# Altium integrated library Analog Devices MEMS Inertial Sensors.IntLib: 109 symbols (part 4 of 6)
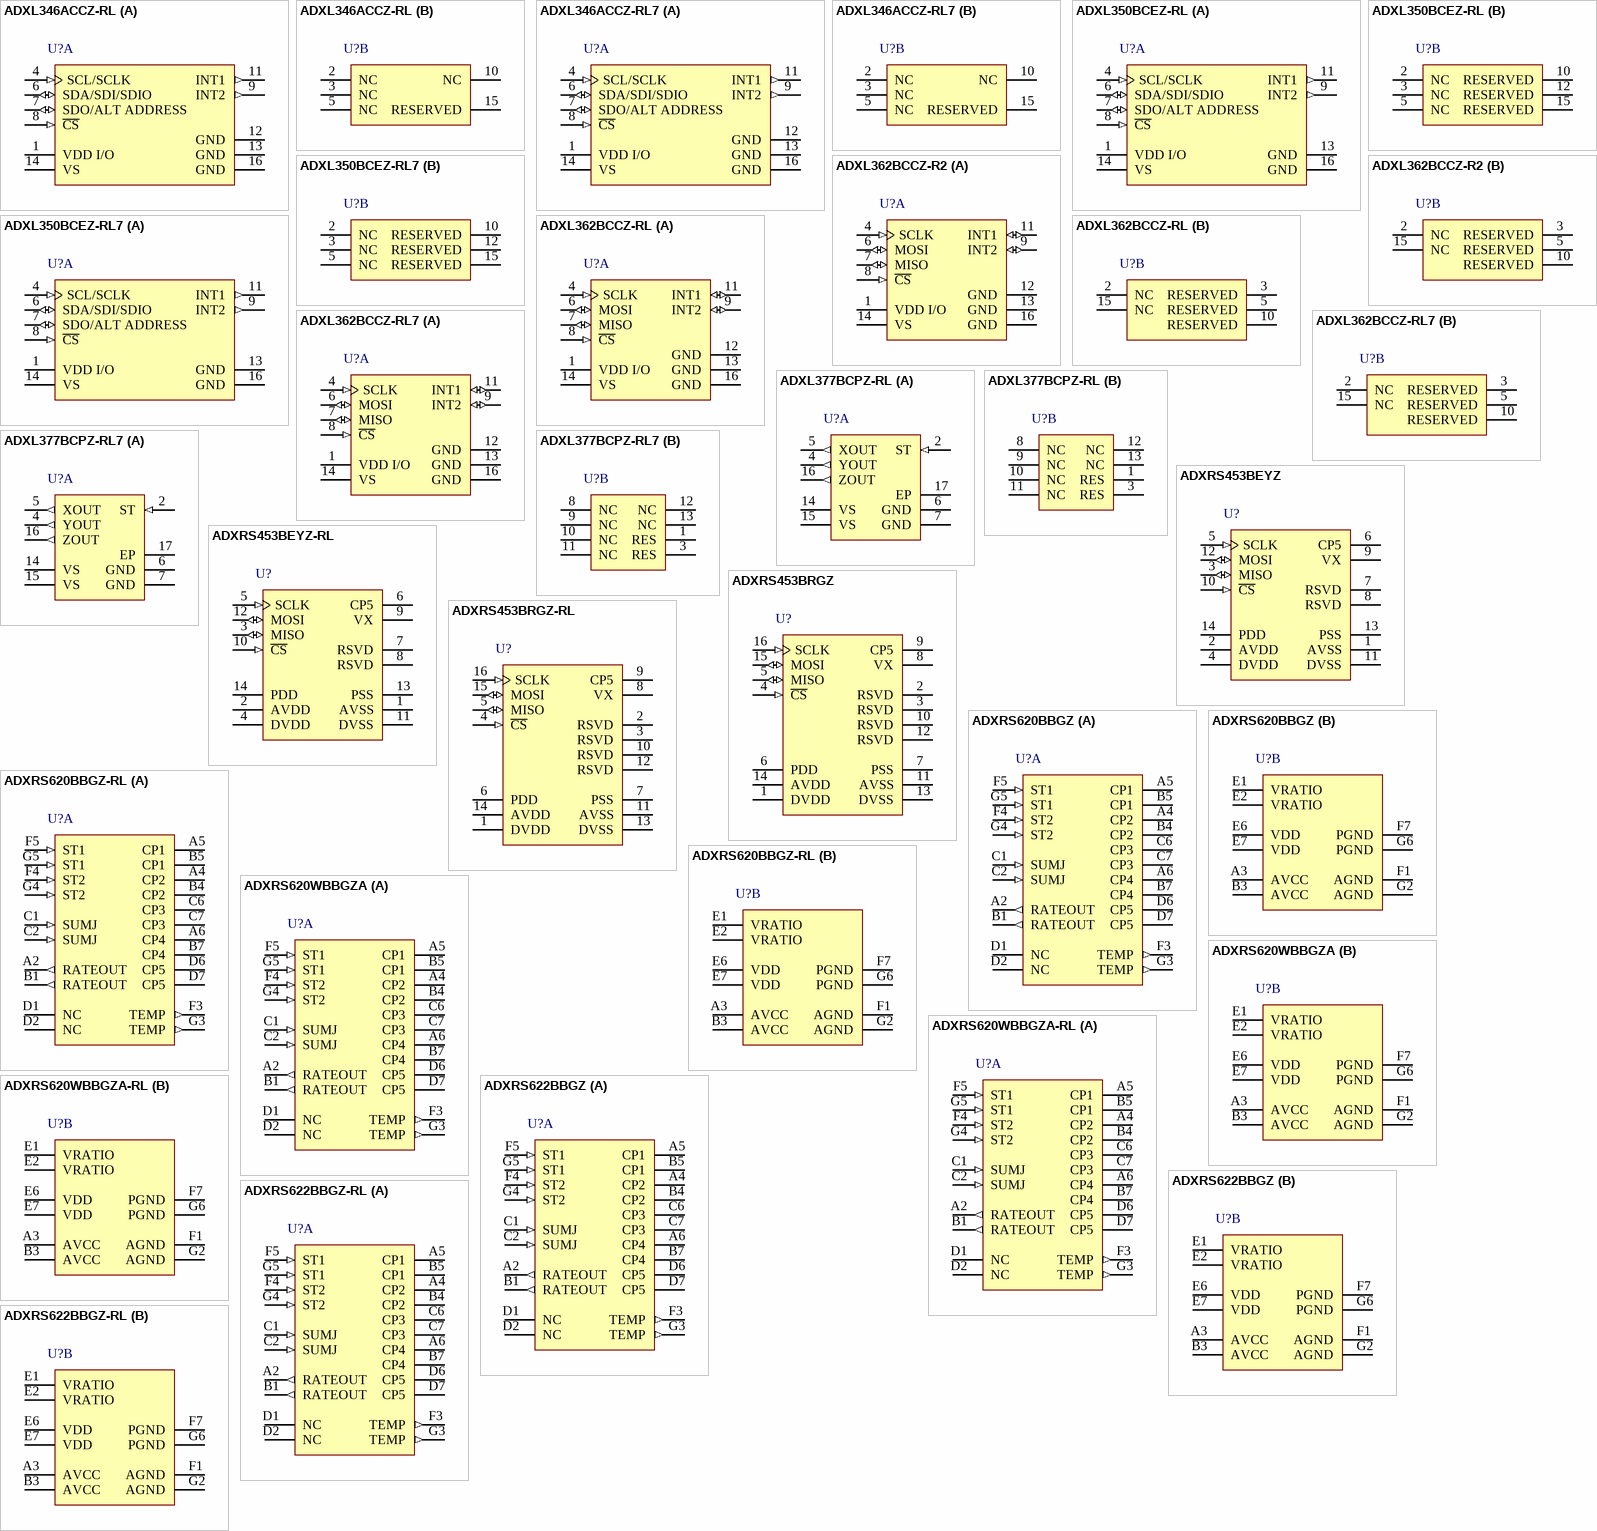
[diagram p8: symbols ADXL346ACCZ-RL to ADXRS622BBGZ-RL]

## ADXL346ACCZ-RL
designator U?
3-Axis, +/-2 g / +/-4 g / +/-8 g / +/-16 g Ultralow Power Digital Accelerometer with Digital Output, 1.6 KHz BW, Industrial, 16-pin LGA, Reel; Manufacturer: Analog Devices; PartNumber: ADXL346ACCZ-RL; # of Axes: 3; -3dB Bandwidth: 1.6 KHz; Sensitivity: 256/128/64/32 LSB/g; Supply Current: 140 uA; Voltage Supply (V): 1.7 to 2.75; DatasheetVersion: Rev. B; PackageVersion: 07-30-2012-B, 07/2012; PackageReference: CC-16-3; PackageDescription: 16-Pin Land Grid Array, 3 x 3 mm Body, 0.5 mm Pitch; Supplier 1: Digi-Key; Supplier Part Number 1: ADXL346ACCZ-RL-ND; Supplier 2: Newark; Supplier Part Number 2: 74R5959; Supplier 3: Mouser; Supplier Part Number 3: 584-ADXL346ACCZ-R; Output Type: Digital; Packing: Reel; Mounting Technology: Surface Mount; ComponentLink1Description: Manufacturer URL; ComponentLink1URL: http://www.analog.com/en/index.html; ComponentLink2Description: Datasheet; ComponentLink2URL: http://www.analog.com/static/imported-files/data_sheets/ADXL346.pdf; ComponentLink3Description: Package Specification; ComponentLink3URL: http:/www.analog.com/static/imported-files/packages/PKG_PDF/LGA(CC)/CC_16_3.pdf; ComponentLink4Description: Product URL; ComponentLink4URL: http://www.analog.com/en/mems-sensors/mems-inertial-sensors/adxl346/products/product.html
footprint ADI-CC-16-3_N (QFN, 16-Leads, Body 3x3mm, Pitch 0.5mm, IPC Medium Density)
footprint ADI-CC-16-3_L (QFN, 16-Leads, Body 3x3mm, Pitch 0.5mm, IPC High Density)
footprint ADI-CC-16-3_M (QFN, 16-Leads, Body 3x3mm, Pitch 0.5mm, IPC Low Density)
part A pins: 1 VDD I/O (power) "Digital Interface Supply Voltage.", 4 SCL/SCLK (in) "Serial Communications Clock.", 6 SDA/SDI/SDIO (io) "Serial Data (I2C)/Serial Data Input (SPI 4-Wire)/Serial Data Input and Output (SPI 3-Wire).", 7 SDO/ALT ADDRESS (io) "Serial Data Output (SPI 4-Wire)/Alternate I2C Address Select (I2C).", 8 ~{CS} (in) "Chip Select.", 9 INT2 (out) "Interrupt 2 Output.", 11 INT1 (out) "Interrupt 1 Output.", 12 GND (power) "Must be connected to ground.", 13 GND (power) "Must be connected to ground.", 14 VS (power) "Supply Voltage.", 16 GND (power) "Must be connected to ground."
part B pins: 2 NC "Not Internally Connected.", 3 NC "Not Internally Connected.", 5 NC "Not Internally Connected.", 10 NC "Not Internally Connected.", 15 RESERVED "Reserved. This pin must be connected to VS."

## ADXL346ACCZ-RL7
designator U?
3-Axis, +/-2 g / +/-4 g / +/-8 g / +/-16 g Ultralow Power Digital Accelerometer with Digital Output, 1.6 KHz BW, Industrial, 16-pin LGA, Reel; Manufacturer: Analog Devices; PartNumber: ADXL346ACCZ-RL7; # of Axes: 3; -3dB Bandwidth: 1.6 KHz; Sensitivity: 256/128/64/32 LSB/g; Supply Current: 140 uA; Voltage Supply (V): 1.7 to 2.75; DatasheetVersion: Rev. B; PackageVersion: 07-30-2012-B, 07/2012; PackageReference: CC-16-3; PackageDescription: 16-Pin Land Grid Array, 3 x 3 mm Body, 0.5 mm Pitch; Supplier 1: Digi-Key; Supplier Part Number 1: ADXL346ACCZ-RL7TR-ND; Supplier 2: Digi-Key; Supplier Part Number 2: ADXL346ACCZ-RL7CT-ND; Supplier 3: Digi-Key; Supplier Part Number 3: ADXL346ACCZ-RL7DKR-ND; Supplier 4: Farnell; Supplier Part Number 4: 2125736; Supplier 5: Newark; Supplier Part Number 5: 78T6295; Supplier 6: Newark; Supplier Part Number 6: 74R5960; Supplier 7: Mouser; Supplier Part Number 7: 584-ADXL346ACCZ-R7; Output Type: Digital; Packing: Reel; Mounting Technology: Surface Mount; ComponentLink1Description: Manufacturer URL; ComponentLink1URL: http://www.analog.com/en/index.html; ComponentLink2Description: Datasheet; ComponentLink2URL: http://www.analog.com/static/imported-files/data_sheets/ADXL346.pdf; ComponentLink3Description: Package Specification; ComponentLink3URL: http:/www.analog.com/static/imported-files/packages/PKG_PDF/LGA(CC)/CC_16_3.pdf; ComponentLink4Description: Product URL; ComponentLink4URL: http://www.analog.com/en/mems-sensors/mems-inertial-sensors/adxl346/products/product.html
footprint ADI-CC-16-3_N (QFN, 16-Leads, Body 3x3mm, Pitch 0.5mm, IPC Medium Density)
footprint ADI-CC-16-3_L (QFN, 16-Leads, Body 3x3mm, Pitch 0.5mm, IPC High Density)
footprint ADI-CC-16-3_M (QFN, 16-Leads, Body 3x3mm, Pitch 0.5mm, IPC Low Density)
part A pins: 1 VDD I/O (power) "Digital Interface Supply Voltage.", 4 SCL/SCLK (in) "Serial Communications Clock.", 6 SDA/SDI/SDIO (io) "Serial Data (I2C)/Serial Data Input (SPI 4-Wire)/Serial Data Input and Output (SPI 3-Wire).", 7 SDO/ALT ADDRESS (io) "Serial Data Output (SPI 4-Wire)/Alternate I2C Address Select (I2C).", 8 ~{CS} (in) "Chip Select.", 9 INT2 (out) "Interrupt 2 Output.", 11 INT1 (out) "Interrupt 1 Output.", 12 GND (power) "Must be connected to ground.", 13 GND (power) "Must be connected to ground.", 14 VS (power) "Supply Voltage.", 16 GND (power) "Must be connected to ground."
part B pins: 2 NC "Not Internally Connected.", 3 NC "Not Internally Connected.", 5 NC "Not Internally Connected.", 10 NC "Not Internally Connected.", 15 RESERVED "Reserved. This pin must be connected to VS."

## ADXL350BCEZ-RL
designator U?
3-Axis, +/-1 g / +/-2 g / +/-4 g / +/-8 g Digital Accelerometer with Digital Output, 1.6 KHz BW, Industrial, 16-pin QFN, Reel; Manufacturer: Analog Devices; PartNumber: ADXL350BCEZ-RL; # of Axes: 3; -3dB Bandwidth: 1.6 KHz; Sensitivity: 512/256/128/64 LSB/g; Supply Current: 166 uA; Voltage Supply (V): 2.0 to 3.6; DatasheetVersion: Rev. 0; PackageVersion: 07-13-2012-B, 07/2012; PackageReference: CE-16-3; PackageDescription: 16-Pin Chip Array, Small Outline, No Lead Cavity, 4 x 3 mm Body, 0.5 mm Pitch; Supplier 1: Digi-Key; Supplier Part Number 1: ADXL350BCEZ-RL-ND; Supplier 2: Mouser; Supplier Part Number 2: 584-ADXL350BCEZ-R; Output Type: Digital; Packing: Reel; Mounting Technology: Surface Mount; ComponentLink1Description: Manufacturer URL; ComponentLink1URL: http://www.analog.com/en/index.html; ComponentLink2Description: Datasheet; ComponentLink2URL: http://www.analog.com/static/imported-files/data_sheets/ADXL350.pdf; ComponentLink3Description: Package Specification; ComponentLink3URL: http://www.analog.com/static/imported-files/data_sheets/ADXL350.pdf; ComponentLink4Description: Product URL; ComponentLink4URL: http://www.analog.com/en/mems-sensors/mems-inertial-sensors/adxl350/products/product.html
footprint ADI-CE-16-3_V (QFN, 16-Leads, Body 4x3mm, Pitch 0.5mm)
part A pins: 1 VDD I/O (power) "Digital Interface Supply Voltage.", 4 SCL/SCLK (in) "Serial Communications Clock.", 6 SDA/SDI/SDIO (io) "Serial Data (I2C)/Serial Data Input (SPI 4-Wire)/Serial Data Input and Output (SPI 3-Wire).", 7 SDO/ALT ADDRESS (io) "Serial Data Output/Alternate I2C Address Select.", 8 ~{CS} (in) "Chip Select.", 9 INT2 (out) "Interrupt 2 Output.", 11 INT1 (out) "Interrupt 1 Output.", 13 GND (power) "This pin must be connected to ground.", 14 VS (power) "Supply Voltage.", 16 GND (power) "This pin must be connected to ground."
part B pins: 2 NC "Not Internally Connected.", 3 NC "Not Internally Connected.", 5 NC "Not Internally Connected.", 10 RESERVED "Reserved. This pin must be connected to ground or left open.", 12 RESERVED "Reserved. This pin must be connected to ground.", 15 RESERVED "Reserved. This pin must be connected to VS or left open."

## ADXL350BCEZ-RL7
designator U?
3-Axis, +/-1 g / +/-2 g / +/-4 g / +/-8 g Digital Accelerometer with Digital Output, 1.6 KHz BW, Industrial, 16-pin QFN, Reel; Manufacturer: Analog Devices; PartNumber: ADXL350BCEZ-RL7; # of Axes: 3; -3dB Bandwidth: 1.6 KHz; Sensitivity: 512/256/128/64 LSB/g; Supply Current: 166 uA; Voltage Supply (V): 2.0 to 3.6; DatasheetVersion: Rev. 0; PackageVersion: 07-13-2012-B, 07/2012; PackageReference: CE-16-3; PackageDescription: 16-Pin Chip Array, Small Outline, No Lead Cavity, 4 x 3 mm Body, 0.5 mm Pitch; Supplier 1: Digi-Key; Supplier Part Number 1: ADXL350BCEZ-RL7TR-ND; Supplier 2: Digi-Key; Supplier Part Number 2: ADXL350BCEZ-RL7CT-ND; Supplier 3: Digi-Key; Supplier Part Number 3: ADXL350BCEZ-RL7DKR-ND; Supplier 4: Farnell; Supplier Part Number 4: 2250675; Supplier 5: Newark; Supplier Part Number 5: 47W3885; Supplier 6: Newark; Supplier Part Number 6: 45W7057; Supplier 7: Mouser; Supplier Part Number 7: 584-ADXL350BCEZ-R7; Output Type: Digital; Packing: Reel; Mounting Technology: Surface Mount; ComponentLink1Description: Manufacturer URL; ComponentLink1URL: http://www.analog.com/en/index.html; ComponentLink2Description: Datasheet; ComponentLink2URL: http://www.analog.com/static/imported-files/data_sheets/ADXL350.pdf; ComponentLink3Description: Package Specification; ComponentLink3URL: http://www.analog.com/static/imported-files/data_sheets/ADXL350.pdf; ComponentLink4Description: Product URL; ComponentLink4URL: http://www.analog.com/en/mems-sensors/mems-inertial-sensors/adxl350/products/product.html
footprint ADI-CE-16-3_V (QFN, 16-Leads, Body 4x3mm, Pitch 0.5mm)
part A pins: 1 VDD I/O (power) "Digital Interface Supply Voltage.", 4 SCL/SCLK (in) "Serial Communications Clock.", 6 SDA/SDI/SDIO (io) "Serial Data (I2C)/Serial Data Input (SPI 4-Wire)/Serial Data Input and Output (SPI 3-Wire).", 7 SDO/ALT ADDRESS (io) "Serial Data Output/Alternate I2C Address Select.", 8 ~{CS} (in) "Chip Select.", 9 INT2 (out) "Interrupt 2 Output.", 11 INT1 (out) "Interrupt 1 Output.", 13 GND (power) "This pin must be connected to ground.", 14 VS (power) "Supply Voltage.", 16 GND (power) "This pin must be connected to ground."
part B pins: 2 NC "Not Internally Connected.", 3 NC "Not Internally Connected.", 5 NC "Not Internally Connected.", 10 RESERVED "Reserved. This pin must be connected to ground or left open.", 12 RESERVED "Reserved. This pin must be connected to ground.", 15 RESERVED "Reserved. This pin must be connected to VS or left open."

## ADXL362BCCZ-R2
designator U?
Micropower, 3-Axis, +/-2 g / +/-4 g / +/-8 g Digital Output MEMS Accelerometer with 200 Hz BW, Industrial, 16-pin LGA, Reel; Manufacturer: Analog Devices; PartNumber: ADXL362BCCZ-R2; # of Axes: 3; -3dB Bandwidth: 200 Hz; Sensitivity: 1/2/4 mg/LSB; Supply Current: 1.8 uA; Voltage Supply (V): 1.6 to 3.5; DatasheetVersion: Rev. B; PackageVersion: 10-23-2012-A, 10/2012; PackageReference: CC-16-4; PackageDescription: 16-Pin Land Grid Array, 3.25 x 3 mm Body, 0.5 mm Pitch; Supplier 1: Digi-Key; Supplier Part Number 1: ADXL362BCCZ-R2TR-ND; Supplier 2: Digi-Key; Supplier Part Number 2: ADXL362BCCZ-R2CT-ND; Supplier 3: Digi-Key; Supplier Part Number 3: ADXL362BCCZ-R2DKR-ND; Supplier 4: Newark; Supplier Part Number 4: 45W7058; Supplier 5: Mouser; Supplier Part Number 5: 584-ADXL362BCCZ-R2; Output Type: Digital; Packing: Reel; Mounting Technology: Surface Mount; ComponentLink1Description: Manufacturer URL; ComponentLink1URL: http://www.analog.com/en/index.html; ComponentLink2Description: Datasheet; ComponentLink2URL: http://www.analog.com/static/imported-files/data_sheets/ADXL362.pdf; ComponentLink3Description: Package Specification; ComponentLink3URL: http:/www.analog.com/static/imported-files/packages/PKG_PDF/LGA(CC)/CC_16_4.pdf; ComponentLink4Description: Product URL; ComponentLink4URL: http://www.analog.com/en/mems-sensors/mems-inertial-sensors/adxl362/products/product.html
footprint ADI-CC-16-4_N (QFN, 16-Leads, Body 3.25x3mm, Pitch 0.5mm, IPC Medium Density)
footprint ADI-CC-16-4_L (QFN, 16-Leads, Body 3.25x3mm, Pitch 0.5mm, IPC High Density)
footprint ADI-CC-16-4_M (QFN, 16-Leads, Body 3.25x3mm, Pitch 0.5mm, IPC Low Density)
part A pins: 1 VDD I/O (power) "Supply Voltage for Digital I/O.", 4 SCLK (in) "SPI Communications Clock.", 6 MOSI (io) "Master Output, Slave Input. SPI serial data input.", 7 MISO (io) "Master Input, Slave Output. SPI serial data output.", 8 ~{CS} (in) "SPI Chip Select, Active Low. Must be low during SPI communications.", 9 INT2 (io) "Interrupt 2 Output. INT2 also serves as an input for synchronized sampling.", 11 INT1 (io) "Interrupt 1 Output. INT1 also serves as an input for external clocking.", 12 GND (power) "Ground. This pin must be grounded.", 13 GND (power) "Ground. This pin must be grounded.", 14 VS (power) "Supply Voltage.", 16 GND (power) "Ground. This pin must be grounded."
part B pins: 2 NC "No Connect. Not internally connected.", 3 RESERVED "Reserved. Can be left unconnected or connected to GND.", 5 RESERVED "Reserved. Can be left unconnected or connected to GND.", 10 RESERVED "Reserved. Can be left unconnected or connected to GND.", 15 NC "No Connect. Not internally connected."

## ADXL362BCCZ-RL
designator U?
Micropower, 3-Axis, +/-2 g / +/-4 g / +/-8 g Digital Output MEMS Accelerometer with 200 Hz BW, Industrial, 16-pin LGA, Reel; Manufacturer: Analog Devices; PartNumber: ADXL362BCCZ-RL; # of Axes: 3; -3dB Bandwidth: 200 Hz; Sensitivity: 1/2/4 mg/LSB; Supply Current: 1.8 uA; Voltage Supply (V): 1.6 to 3.5; DatasheetVersion: Rev. B; PackageVersion: 10-23-2012-A, 10/2012; PackageReference: CC-16-4; PackageDescription: 16-Pin Land Grid Array, 3.25 x 3 mm Body, 0.5 mm Pitch; Supplier 1: Digi-Key; Supplier Part Number 1: ADXL362BCCZ-RL-ND; Supplier 2: Newark; Supplier Part Number 2: 43W5525; Supplier 3: Mouser; Supplier Part Number 3: 584-ADXL362BCCZ-R; Output Type: Digital; Packing: Reel; Mounting Technology: Surface Mount; ComponentLink1Description: Manufacturer URL; ComponentLink1URL: http://www.analog.com/en/index.html; ComponentLink2Description: Datasheet; ComponentLink2URL: http://www.analog.com/static/imported-files/data_sheets/ADXL362.pdf; ComponentLink3Description: Package Specification; ComponentLink3URL: http:/www.analog.com/static/imported-files/packages/PKG_PDF/LGA(CC)/CC_16_4.pdf; ComponentLink4Description: Product URL; ComponentLink4URL: http://www.analog.com/en/mems-sensors/mems-inertial-sensors/adxl362/products/product.html
footprint ADI-CC-16-4_N (QFN, 16-Leads, Body 3.25x3mm, Pitch 0.5mm, IPC Medium Density)
footprint ADI-CC-16-4_L (QFN, 16-Leads, Body 3.25x3mm, Pitch 0.5mm, IPC High Density)
footprint ADI-CC-16-4_M (QFN, 16-Leads, Body 3.25x3mm, Pitch 0.5mm, IPC Low Density)
part A pins: 1 VDD I/O (power) "Supply Voltage for Digital I/O.", 4 SCLK (in) "SPI Communications Clock.", 6 MOSI (io) "Master Output, Slave Input. SPI serial data input.", 7 MISO (io) "Master Input, Slave Output. SPI serial data output.", 8 ~{CS} (in) "SPI Chip Select, Active Low. Must be low during SPI communications.", 9 INT2 (io) "Interrupt 2 Output. INT2 also serves as an input for synchronized sampling.", 11 INT1 (io) "Interrupt 1 Output. INT1 also serves as an input for external clocking.", 12 GND (power) "Ground. This pin must be grounded.", 13 GND (power) "Ground. This pin must be grounded.", 14 VS (power) "Supply Voltage.", 16 GND (power) "Ground. This pin must be grounded."
part B pins: 2 NC "No Connect. Not internally connected.", 3 RESERVED "Reserved. Can be left unconnected or connected to GND.", 5 RESERVED "Reserved. Can be left unconnected or connected to GND.", 10 RESERVED "Reserved. Can be left unconnected or connected to GND.", 15 NC "No Connect. Not internally connected."

## ADXL362BCCZ-RL7
designator U?
Micropower, 3-Axis, +/-2 g / +/-4 g / +/-8 g Digital Output MEMS Accelerometer with 200 Hz BW, Industrial, 16-pin LGA, Reel; Manufacturer: Analog Devices; PartNumber: ADXL362BCCZ-RL7; # of Axes: 3; -3dB Bandwidth: 200 Hz; Sensitivity: 1/2/4 mg/LSB; Supply Current: 1.8 uA; Voltage Supply (V): 1.6 to 3.5; DatasheetVersion: Rev. B; PackageVersion: 10-23-2012-A, 10/2012; PackageReference: CC-16-4; PackageDescription: 16-Pin Land Grid Array, 3.25 x 3 mm Body, 0.5 mm Pitch; Supplier 1: Digi-Key; Supplier Part Number 1: ADXL362BCCZ-RL7TR-ND; Supplier 2: Digi-Key; Supplier Part Number 2: ADXL362BCCZ-RL7CT-ND; Supplier 3: Digi-Key; Supplier Part Number 3: ADXL362BCCZ-RL7DKR-ND; Supplier 4: Farnell; Supplier Part Number 4: 2377129; Supplier 5: Newark; Supplier Part Number 5: 47W0478; Supplier 6: Newark; Supplier Part Number 6: 43W5526; Supplier 7: Mouser; Supplier Part Number 7: 584-ADXL362BCCZ-R7; Output Type: Digital; Packing: Reel; Mounting Technology: Surface Mount; ComponentLink1Description: Manufacturer URL; ComponentLink1URL: http://www.analog.com/en/index.html; ComponentLink2Description: Datasheet; ComponentLink2URL: http://www.analog.com/static/imported-files/data_sheets/ADXL362.pdf; ComponentLink3Description: Package Specification; ComponentLink3URL: http:/www.analog.com/static/imported-files/packages/PKG_PDF/LGA(CC)/CC_16_4.pdf; ComponentLink4Description: Product URL; ComponentLink4URL: http://www.analog.com/en/mems-sensors/mems-inertial-sensors/adxl362/products/product.html
footprint ADI-CC-16-4_N (QFN, 16-Leads, Body 3.25x3mm, Pitch 0.5mm, IPC Medium Density)
footprint ADI-CC-16-4_L (QFN, 16-Leads, Body 3.25x3mm, Pitch 0.5mm, IPC High Density)
footprint ADI-CC-16-4_M (QFN, 16-Leads, Body 3.25x3mm, Pitch 0.5mm, IPC Low Density)
part A pins: 1 VDD I/O (power) "Supply Voltage for Digital I/O.", 4 SCLK (in) "SPI Communications Clock.", 6 MOSI (io) "Master Output, Slave Input. SPI serial data input.", 7 MISO (io) "Master Input, Slave Output. SPI serial data output.", 8 ~{CS} (in) "SPI Chip Select, Active Low. Must be low during SPI communications.", 9 INT2 (io) "Interrupt 2 Output. INT2 also serves as an input for synchronized sampling.", 11 INT1 (io) "Interrupt 1 Output. INT1 also serves as an input for external clocking.", 12 GND (power) "Ground. This pin must be grounded.", 13 GND (power) "Ground. This pin must be grounded.", 14 VS (power) "Supply Voltage.", 16 GND (power) "Ground. This pin must be grounded."
part B pins: 2 NC "No Connect. Not internally connected.", 3 RESERVED "Reserved. Can be left unconnected or connected to GND.", 5 RESERVED "Reserved. Can be left unconnected or connected to GND.", 10 RESERVED "Reserved. Can be left unconnected or connected to GND.", 15 NC "No Connect. Not internally connected."

## ADXL377BCPZ-RL
designator U?
3-Axis, +/-200 g Analog MEMS Accelerometer with Analog Output, 1.3 KHz BW, Industrial, 16-pin QFN, Reel; Manufacturer: Analog Devices; PartNumber: ADXL377BCPZ-RL; # of Axes: 3; -3dB Bandwidth: 1.3 KHz; Sensitivity: 6.5 mV/g; Supply Current: 300 uA; Voltage Supply (V): 1.8 to 3.6; DatasheetVersion: Rev. 0; PackageVersion: 04-27-2010-A, 04/2010; PackageReference: CP-16-28; PackageDescription: 16-Pin Lead Frame Chip Scale Package, 3 x 3 mm Body, 0.5 mm Pitch; Supplier 1: Digi-Key; Supplier Part Number 1: ADXL377BCPZ-RL-ND; Supplier 2: Newark; Supplier Part Number 2: 45W7059; Supplier 3: Mouser; Supplier Part Number 3: 584-ADXL377BCPZ-R; Output Type: Analog; Packing: Reel; Mounting Technology: Surface Mount; ComponentLink1Description: Manufacturer URL; ComponentLink1URL: http://www.analog.com/en/index.html; ComponentLink2Description: Datasheet; ComponentLink2URL: http://www.analog.com/static/imported-files/data_sheets/ADXL377.pdf; ComponentLink3Description: Package Specification; ComponentLink3URL: http:/www.analog.com/static/imported-files/packages/PKG_PDF/LFCSP(CP)/CP_16_28.pdf; ComponentLink4Description: Product URL; ComponentLink4URL: http://www.analog.com/en/mems-sensors/mems-inertial-sensors/adxl377/products/product.html
footprint ADI-CP-16-28_N (QFN, 16-Leads, Body 3x3mm, Pitch 0.5mm, Thermal Pad 1.6x1.6mm, IPC Medium Density)
footprint ADI-CP-16-28_L (QFN, 16-Leads, Body 3x3mm, Pitch 0.5mm, Thermal Pad 1.6x1.6mm, IPC High Density)
footprint ADI-CP-16-28_M (QFN, 16-Leads, Body 3x3mm, Pitch 0.5mm, Thermal Pad 1.6x1.6mm, IPC Low Density)
part A pins: 2 ST (in) "Self Test.", 4 YOUT (out) "Y Channel Output.", 5 XOUT (out) "X Channel Output.", 6 GND (power) "Must be connected to ground.", 7 GND (power) "Must be connected to ground.", 14 VS (power) "Supply Voltage (3.0 V typical).", 15 VS (power) "Supply Voltage (3.0 V typical).", 16 ZOUT (out) "Z Channel Output.", 17 EP "Exposed Pad. Not internally connected but should be soldered for mechanical integrity."
part B pins: 1 RES "Reserved. This pin must be connected to GND or left open.", 3 RES "Reserved. This pin must be connected to GND or left open.", 8 NC "Not internally connected.", 9 NC "Not internally connected.", 10 NC "Not internally connected.", 11 NC "Not internally connected.", 12 NC "Not internally connected.", 13 NC "Not internally connected."

## ADXL377BCPZ-RL7
designator U?
3-Axis, +/-200 g Analog MEMS Accelerometer with Analog Output, 1.3 KHz BW, Industrial, 16-pin QFN, Reel; Manufacturer: Analog Devices; PartNumber: ADXL377BCPZ-RL7; # of Axes: 3; -3dB Bandwidth: 1.3 KHz; Sensitivity: 6.5 mV/g; Supply Current: 300 uA; Voltage Supply (V): 1.8 to 3.6; DatasheetVersion: Rev. 0; PackageVersion: 04-27-2010-A, 04/2010; PackageReference: CP-16-28; PackageDescription: 16-Pin Lead Frame Chip Scale Package, 3 x 3 mm Body, 0.5 mm Pitch; Supplier 1: Digi-Key; Supplier Part Number 1: ADXL377BCPZ-RL7TR-ND; Supplier 2: Digi-Key; Supplier Part Number 2: ADXL377BCPZ-RL7CT-ND; Supplier 3: Digi-Key; Supplier Part Number 3: ADXL377BCPZ-RL7DKR-ND; Supplier 4: Farnell; Supplier Part Number 4: 2250677; Supplier 5: Newark; Supplier Part Number 5: 47W3886; Supplier 6: Newark; Supplier Part Number 6: 45W7060; Supplier 7: Mouser; Supplier Part Number 7: 584-ADXL377BCPZ-R7; Output Type: Analog; Packing: Reel; Mounting Technology: Surface Mount; ComponentLink1Description: Manufacturer URL; ComponentLink1URL: http://www.analog.com/en/index.html; ComponentLink2Description: Datasheet; ComponentLink2URL: http://www.analog.com/static/imported-files/data_sheets/ADXL377.pdf; ComponentLink3Description: Package Specification; ComponentLink3URL: http:/www.analog.com/static/imported-files/packages/PKG_PDF/LFCSP(CP)/CP_16_28.pdf; ComponentLink4Description: Product URL; ComponentLink4URL: http://www.analog.com/en/mems-sensors/mems-inertial-sensors/adxl377/products/product.html
footprint ADI-CP-16-28_N (QFN, 16-Leads, Body 3x3mm, Pitch 0.5mm, Thermal Pad 1.6x1.6mm, IPC Medium Density)
footprint ADI-CP-16-28_L (QFN, 16-Leads, Body 3x3mm, Pitch 0.5mm, Thermal Pad 1.6x1.6mm, IPC High Density)
footprint ADI-CP-16-28_M (QFN, 16-Leads, Body 3x3mm, Pitch 0.5mm, Thermal Pad 1.6x1.6mm, IPC Low Density)
part A pins: 2 ST (in) "Self Test.", 4 YOUT (out) "Y Channel Output.", 5 XOUT (out) "X Channel Output.", 6 GND (power) "Must be connected to ground.", 7 GND (power) "Must be connected to ground.", 14 VS (power) "Supply Voltage (3.0 V typical).", 15 VS (power) "Supply Voltage (3.0 V typical).", 16 ZOUT (out) "Z Channel Output.", 17 EP "Exposed Pad. Not internally connected but should be soldered for mechanical integrity."
part B pins: 1 RES "Reserved. This pin must be connected to GND or left open.", 3 RES "Reserved. This pin must be connected to GND or left open.", 8 NC "Not internally connected.", 9 NC "Not internally connected.", 10 NC "Not internally connected.", 11 NC "Not internally connected.", 12 NC "Not internally connected.", 13 NC "Not internally connected."

## ADXRS453BEYZ
designator U?
High Performance, Digital Output Gyroscope with SPI, 77.5 Hz BW, Industrial, 14-pin LCC, Tube; Manufacturer: Analog Devices; PartNumber: ADXRS453BEYZ; Nonliniarity: 0.05% of FS rms; Sensitivity: 80 LSB/degrees/s; Supply Current: 6 mA; Temp Sensor: Yes; Voltage Reference: No; Voltage Supply (V): 3.15 to 5.25; DatasheetVersion: Rev. B; PackageVersion: 05-23-2011-B, 05/2011; PackageReference: EY-14-1; PackageDescription: 14-Pin Ceramic Leadless Chip Carrier, Vertical Form, 9 x 9 mm Body; Supplier 1: Digi-Key; Supplier Part Number 1: ADXRS453BEYZ-ND; Supplier 2: Farnell; Supplier Part Number 2: 1897082; Supplier 3: Newark; Supplier Part Number 3: 31T9301; Supplier 4: Mouser; Supplier Part Number 4: 584-ADXRS453BEYZ; Output Type: Digital; Packing: Tube; Mounting Technology: Surface Mount; ComponentLink1Description: Manufacturer URL; ComponentLink1URL: http://www.analog.com/en/index.html; ComponentLink2Description: Datasheet; ComponentLink2URL: http://www.analog.com/static/imported-files/data_sheets/ADXRS453.pdf; ComponentLink3Description: Package Specification; ComponentLink3URL: http:/www.analog.com/static/imported-files/packages/PKG_PDF/LCC(E)/EY_14_1.pdf; ComponentLink4Description: Product URL; ComponentLink4URL: http://www.analog.com/en/mems-sensors/mems-inertial-sensors/adxrs453/products/product.html
footprint ADI-EY-14-1_V (LCC, 14-Leads, Body 4x9mm)
pins: 1 AVSS (power) "Analog Ground.", 2 AVDD (power) "Analog Regulated Voltage. See Figure 26 for the application circuit diagram.", 3 MISO (io) "Master In/Slave Out.", 4 DVDD (power) "Digital Regulated Voltage. See Figure 26 for the application circuit diagram.", 5 SCLK (in) "SPI Clock.", 6 CP5 (power) "High Voltage Supply. See Figure 26 for the application circuit diagram.", 7 RSVD (power) "Reserved. This pin must be connected to DVSS.", 8 RSVD (power) "Reserved. This pin must be connected to DVSS.", 9 VX (power) "High Voltage Switching Node. See Figure 26 for the application circuit diagram.", 10 ~{CS} (in) "Chip Select.", 11 DVSS (power) "Digital Signal Ground.", 12 MOSI (io) "Master Out/Slave In.", 13 PSS (power) "Switching Regulator Ground.", 14 PDD (power) "Supply Voltage."

## ADXRS453BEYZ-RL
designator U?
High Performance, Digital Output Gyroscope with SPI, 77.5 Hz BW, Industrial, 14-pin LCC, Reel; Manufacturer: Analog Devices; PartNumber: ADXRS453BEYZ-RL; Nonliniarity: 0.05% of FS rms; Sensitivity: 80 LSB/degrees/s; Supply Current: 6 mA; Temp Sensor: Yes; Voltage Reference: No; Voltage Supply (V): 3.15 to 5.25; DatasheetVersion: Rev. B; PackageVersion: 05-23-2011-B, 05/2011; PackageReference: EY-14-1; PackageDescription: 14-Pin Ceramic Leadless Chip Carrier, Vertical Form, 9 x 9 mm Body; Supplier 1: Digi-Key; Supplier Part Number 1: ADXRS453BEYZ-RL-ND; Supplier 2: Newark; Supplier Part Number 2: 58T8895; Supplier 3: Mouser; Supplier Part Number 3: 584-ADXRS453BEYZ-R; Output Type: Digital; Packing: Reel; Mounting Technology: Surface Mount; ComponentLink1Description: Manufacturer URL; ComponentLink1URL: http://www.analog.com/en/index.html; ComponentLink2Description: Datasheet; ComponentLink2URL: http://www.analog.com/static/imported-files/data_sheets/ADXRS453.pdf; ComponentLink3Description: Package Specification; ComponentLink3URL: http:/www.analog.com/static/imported-files/packages/PKG_PDF/LCC(E)/EY_14_1.pdf; ComponentLink4Description: Product URL; ComponentLink4URL: http://www.analog.com/en/mems-sensors/mems-inertial-sensors/adxrs453/products/product.html
footprint ADI-EY-14-1_V (LCC, 14-Leads, Body 4x9mm)
pins: 1 AVSS (power) "Analog Ground.", 2 AVDD (power) "Analog Regulated Voltage. See Figure 26 for the application circuit diagram.", 3 MISO (io) "Master In/Slave Out.", 4 DVDD (power) "Digital Regulated Voltage. See Figure 26 for the application circuit diagram.", 5 SCLK (in) "SPI Clock.", 6 CP5 (power) "High Voltage Supply. See Figure 26 for the application circuit diagram.", 7 RSVD (power) "Reserved. This pin must be connected to DVSS.", 8 RSVD (power) "Reserved. This pin must be connected to DVSS.", 9 VX (power) "High Voltage Switching Node. See Figure 26 for the application circuit diagram.", 10 ~{CS} (in) "Chip Select.", 11 DVSS (power) "Digital Signal Ground.", 12 MOSI (io) "Master Out/Slave In.", 13 PSS (power) "Switching Regulator Ground.", 14 PDD (power) "Supply Voltage."

## ADXRS453BRGZ
designator U?
High Performance, Digital Output Gyroscope with SPI, 77.5 Hz BW, Industrial, 16-pin SOIC, Tube; Manufacturer: Analog Devices; PartNumber: ADXRS453BRGZ; Nonliniarity: 0.05% of FS rms; Sensitivity: 80 LSB/degrees/s; Supply Current: 6 mA; Temp Sensor: Yes; Voltage Reference: No; Voltage Supply (V): 3.15 to 5.25; DatasheetVersion: Rev. B; PackageVersion: 01-30-2013-B, 01/2013; PackageReference: RG-16-1; PackageDescription: 16-Pin Small Outline, Plastic Cavity Package, 10.3 x 7.8 mm Body, 1.27 mm Pitch; Supplier 1: Digi-Key; Supplier Part Number 1: ADXRS453BRGZ-ND; Supplier 2: Farnell; Supplier Part Number 2: 2377130; Supplier 3: Newark; Supplier Part Number 3: 23X6105; Supplier 4: Newark; Supplier Part Number 4: 55T8928; Supplier 5: Mouser; Supplier Part Number 5: 584-ADXRS453BRGZ; Output Type: Digital; Packing: Tube; Mounting Technology: Surface Mount; ComponentLink1Description: Manufacturer URL; ComponentLink1URL: http://www.analog.com/en/index.html; ComponentLink2Description: Datasheet; ComponentLink2URL: http://www.analog.com/static/imported-files/data_sheets/ADXRS453.pdf; ComponentLink3Description: Package Specification; ComponentLink3URL: http:/www.analog.com/static/imported-files/packages/PKG_PDF/SOIC_PCP(RG)/RG_16_1.pdf; ComponentLink4Description: Product URL; ComponentLink4URL: http://www.analog.com/en/mems-sensors/mems-inertial-sensors/adxrs453/products/product.html
footprint ADI-RG-16-1_N (SOIC, 16-Leads, Body 10.3x7.8mm, Pitch 1.27mm, IPC Medium Density)
footprint ADI-RG-16-1_L (SOIC, 16-Leads, Body 10.3x7.8mm, Pitch 1.27mm, IPC High Density)
footprint ADI-RG-16-1_M (SOIC, 16-Leads, Body 10.3x7.8mm, Pitch 1.27mm, IPC Low Density)
pins: 1 DVDD (power) "Digital Regulated Voltage. See Figure 25 for the application circuit diagram.", 2 RSVD (power) "Reserved. This pin must be connected to DVSS.", 3 RSVD (power) "Reserved. This pin must be connected to DVSS.", 4 ~{CS} (in) "Chip Select.", 5 MISO (io) "Master In/Slave Out.", 6 PDD (power) "Supply Voltage.", 7 PSS (power) "Switching Regulator Ground.", 8 VX (power) "High Voltage Switching Node. See Figure 25 for the application circuit diagram.", 9 CP5 (power) "High Voltage Supply. See Figure 25 for the application circuit diagram.", 10 RSVD (power) "Reserved. This pin must be connected to DVSS.", 11 AVSS (power) "Analog Ground.", 12 RSVD (power) "Reserved. This pin must be connected to DVSS.", 13 DVSS (power) "Digital Signal Ground.", 14 AVDD (power) "Analog Regulated Voltage. See Figure 25 for the application circuit diagram.", 15 MOSI (io) "Master Out/Slave In.", 16 SCLK (in) "SPI Clock."

## ADXRS453BRGZ-RL
designator U?
High Performance, Digital Output Gyroscope with SPI, 77.5 Hz BW, Industrial, 16-pin SOIC, Reel; Manufacturer: Analog Devices; PartNumber: ADXRS453BRGZ-RL; Nonliniarity: 0.05% of FS rms; Sensitivity: 80 LSB/degrees/s; Supply Current: 6 mA; Temp Sensor: Yes; Voltage Reference: No; Voltage Supply (V): 3.15 to 5.25; DatasheetVersion: Rev. B; PackageVersion: 01-30-2013-B, 01/2013; PackageReference: RG-16-1; PackageDescription: 16-Pin Small Outline, Plastic Cavity Package, 10.3 x 7.8 mm Body, 1.27 mm Pitch; Supplier 1: Digi-Key; Supplier Part Number 1: ADXRS453BRGZ-RL-ND; Supplier 2: Newark; Supplier Part Number 2: 55T8929; Supplier 3: Mouser; Supplier Part Number 3: 584-ADXRS453BRGZ-R; Output Type: Digital; Packing: Reel; Mounting Technology: Surface Mount; ComponentLink1Description: Manufacturer URL; ComponentLink1URL: http://www.analog.com/en/index.html; ComponentLink2Description: Datasheet; ComponentLink2URL: http://www.analog.com/static/imported-files/data_sheets/ADXRS453.pdf; ComponentLink3Description: Package Specification; ComponentLink3URL: http:/www.analog.com/static/imported-files/packages/PKG_PDF/SOIC_PCP(RG)/RG_16_1.pdf; ComponentLink4Description: Product URL; ComponentLink4URL: http://www.analog.com/en/mems-sensors/mems-inertial-sensors/adxrs453/products/product.html
footprint ADI-RG-16-1_N (SOIC, 16-Leads, Body 10.3x7.8mm, Pitch 1.27mm, IPC Medium Density)
footprint ADI-RG-16-1_L (SOIC, 16-Leads, Body 10.3x7.8mm, Pitch 1.27mm, IPC High Density)
footprint ADI-RG-16-1_M (SOIC, 16-Leads, Body 10.3x7.8mm, Pitch 1.27mm, IPC Low Density)
pins: 1 DVDD (power) "Digital Regulated Voltage. See Figure 25 for the application circuit diagram.", 2 RSVD (power) "Reserved. This pin must be connected to DVSS.", 3 RSVD (power) "Reserved. This pin must be connected to DVSS.", 4 ~{CS} (in) "Chip Select.", 5 MISO (io) "Master In/Slave Out.", 6 PDD (power) "Supply Voltage.", 7 PSS (power) "Switching Regulator Ground.", 8 VX (power) "High Voltage Switching Node. See Figure 25 for the application circuit diagram.", 9 CP5 (power) "High Voltage Supply. See Figure 25 for the application circuit diagram.", 10 RSVD (power) "Reserved. This pin must be connected to DVSS.", 11 AVSS (power) "Analog Ground.", 12 RSVD (power) "Reserved. This pin must be connected to DVSS.", 13 DVSS (power) "Digital Signal Ground.", 14 AVDD (power) "Analog Regulated Voltage. See Figure 25 for the application circuit diagram.", 15 MOSI (io) "Master Out/Slave In.", 16 SCLK (in) "SPI Clock."

## ADXRS620BBGZ
designator U?
+/-300 degrees/s Yaw Rate Gyro with Analog Output, 2.5 KHz BW, Industrial, 32-pin BGA, Tray; Manufacturer: Analog Devices; PartNumber: ADXRS620BBGZ; -3dB Bandwidth: 2.5 KHz; Nonliniarity: 0.1% of FS; Sensitivity: 6 mv/degrees/s; Supply Current: 3.5 mA; Temp Sensor: Yes; Voltage Reference: No; Voltage Supply (V): 4.75 to 5.25; DatasheetVersion: Rev. B; PackageVersion: 042307-A, 04/2007; PackageReference: BG-32-3; PackageDescription: 32-Ball Ceramic Ball Grid Array, 6.85 x 6.85 mm Body, 0.8 mm Pitch; Supplier 1: Digi-Key; Supplier Part Number 1: ADXRS620BBGZ-ND; Supplier 2: Farnell; Supplier Part Number 2: 2305763; Supplier 3: Newark; Supplier Part Number 3: 91R2569; Supplier 4: Mouser; Supplier Part Number 4: 584-ADXRS620BBGZ; Output Type: Analog; Packing: Tray; Mounting Technology: Surface Mount; ComponentLink1Description: Manufacturer URL; ComponentLink1URL: http://www.analog.com/en/index.html; ComponentLink2Description: Datasheet; ComponentLink2URL: http://www.analog.com/static/imported-files/data_sheets/ADXRS620.pdf; ComponentLink3Description: Package Specification; ComponentLink3URL: http:/www.analog.com/static/imported-files/packages/6438543BG_32_3.pdf; ComponentLink4Description: Product URL; ComponentLink4URL: http://www.analog.com/en/mems-sensors/mems-inertial-sensors/adxrs620/products/product.html
footprint ADI-BG-32-3 (BGA, 32-Balls, Body 6.85x6.85mm, Pitch 0.8mm)
part A pins: A2 RATEOUT (out) "Rate Signal Output.", A4 CP2 "Charge Pump Capacitor (22 nF).", A5 CP1 "Charge Pump Capacitor (22 nF).", A6 CP4 "Charge Pump Capacitor (22 nF).", B1 RATEOUT (out) "Rate Signal Output.", B4 CP2 "Charge Pump Capacitor (22 nF).", B5 CP1 "Charge Pump Capacitor (22 nF).", B7 CP4 "Charge Pump Capacitor (22 nF).", C1 SUMJ (in) "Output Amp Summing Junction.", C2 SUMJ (in) "Output Amp Summing Junction.", C6 CP3 "Charge Pump Capacitor (22 nF).", C7 CP3 "Charge Pump Capacitor (22 nF).", D1 NC "No Connect.", D2 NC "No Connect.", D6 CP5 (power) "HV Filter Capacitor (0.1 uF).", D7 CP5 (power) "HV Filter Capacitor (0.1 uF).", F3 TEMP (out) "Temperature Voltage Output.", F4 ST2 (in) "Self-Test for Sensor 2.", F5 ST1 (in) "Self-Test for Sensor 1.", G3 TEMP (out) "Temperature Voltage Output.", G4 ST2 (in) "Self-Test for Sensor 2.", G5 ST1 (in) "Self-Test for Sensor 1."
part B pins: A3 AVCC (power) "Positive Analog Supply.", B3 AVCC (power) "Positive Analog Supply.", E1 VRATIO (power) "Reference Supply for Ratiometric Output.", E2 VRATIO (power) "Reference Supply for Ratiometric Output.", E6 VDD (power) "Positive Charge Pump Supply.", E7 VDD (power) "Positive Charge Pump Supply.", F1 AGND (power) "Analog Supply Return.", F7 PGND (power) "Charge Pump Supply Return.", G2 AGND (power) "Analog Supply Return.", G6 PGND (power) "Charge Pump Supply Return."

## ADXRS620BBGZ-RL
designator U?
+/-300 degrees/s Yaw Rate Gyro with Analog Output, 2.5 KHz BW, Industrial, 32-pin BGA, Reel; Manufacturer: Analog Devices; PartNumber: ADXRS620BBGZ-RL; -3dB Bandwidth: 2.5 KHz; Nonliniarity: 0.1% of FS; Sensitivity: 6 mv/degrees/s; Supply Current: 3.5 mA; Temp Sensor: Yes; Voltage Reference: No; Voltage Supply (V): 4.75 to 5.25; DatasheetVersion: Rev. B; PackageVersion: 042307-A, 04/2007; PackageReference: BG-32-3; PackageDescription: 32-Ball Ceramic Ball Grid Array, 6.85 x 6.85 mm Body, 0.8 mm Pitch; Supplier 1: Digi-Key; Supplier Part Number 1: ADXRS620BBGZ-RLTR-ND; Supplier 2: Digi-Key; Supplier Part Number 2: ADXRS620BBGZ-RLCT-ND; Supplier 3: Digi-Key; Supplier Part Number 3: ADXRS620BBGZ-RLDKR-ND; Supplier 4: Newark; Supplier Part Number 4: 91R2570; Supplier 5: Mouser; Supplier Part Number 5: 584-ADXRS620BBGZ-R; Output Type: Analog; Packing: Reel; Mounting Technology: Surface Mount; ComponentLink1Description: Manufacturer URL; ComponentLink1URL: http://www.analog.com/en/index.html; ComponentLink2Description: Datasheet; ComponentLink2URL: http://www.analog.com/static/imported-files/data_sheets/ADXRS620.pdf; ComponentLink3Description: Package Specification; ComponentLink3URL: http:/www.analog.com/static/imported-files/packages/6438543BG_32_3.pdf; ComponentLink4Description: Product URL; ComponentLink4URL: http://www.analog.com/en/mems-sensors/mems-inertial-sensors/adxrs620/products/product.html
footprint ADI-BG-32-3 (BGA, 32-Balls, Body 6.85x6.85mm, Pitch 0.8mm)
part A pins: A2 RATEOUT (out) "Rate Signal Output.", A4 CP2 "Charge Pump Capacitor (22 nF).", A5 CP1 "Charge Pump Capacitor (22 nF).", A6 CP4 "Charge Pump Capacitor (22 nF).", B1 RATEOUT (out) "Rate Signal Output.", B4 CP2 "Charge Pump Capacitor (22 nF).", B5 CP1 "Charge Pump Capacitor (22 nF).", B7 CP4 "Charge Pump Capacitor (22 nF).", C1 SUMJ (in) "Output Amp Summing Junction.", C2 SUMJ (in) "Output Amp Summing Junction.", C6 CP3 "Charge Pump Capacitor (22 nF).", C7 CP3 "Charge Pump Capacitor (22 nF).", D1 NC "No Connect.", D2 NC "No Connect.", D6 CP5 (power) "HV Filter Capacitor (0.1 uF).", D7 CP5 (power) "HV Filter Capacitor (0.1 uF).", F3 TEMP (out) "Temperature Voltage Output.", F4 ST2 (in) "Self-Test for Sensor 2.", F5 ST1 (in) "Self-Test for Sensor 1.", G3 TEMP (out) "Temperature Voltage Output.", G4 ST2 (in) "Self-Test for Sensor 2.", G5 ST1 (in) "Self-Test for Sensor 1."
part B pins: A3 AVCC (power) "Positive Analog Supply.", B3 AVCC (power) "Positive Analog Supply.", E1 VRATIO (power) "Reference Supply for Ratiometric Output.", E2 VRATIO (power) "Reference Supply for Ratiometric Output.", E6 VDD (power) "Positive Charge Pump Supply.", E7 VDD (power) "Positive Charge Pump Supply.", F1 AGND (power) "Analog Supply Return.", F7 PGND (power) "Charge Pump Supply Return.", G2 AGND (power) "Analog Supply Return.", G6 PGND (power) "Charge Pump Supply Return."

## ADXRS620WBBGZA
designator U?
+/-300 degrees/s Yaw Rate Gyro with Analog Output, 2.5 KHz BW, Industrial, 32-pin BGA, Tray; Manufacturer: Analog Devices; PartNumber: ADXRS620WBBGZA; -3dB Bandwidth: 2.5 KHz; Nonliniarity: 0.1% of FS; Sensitivity: 6 mv/degrees/s; Supply Current: 3.5 mA; Temp Sensor: Yes; Voltage Reference: No; Voltage Supply (V): 4.75 to 5.25; DatasheetVersion: Rev. B; PackageVersion: 042307-A, 04/2007; PackageReference: BG-32-3; PackageDescription: 32-Ball Ceramic Ball Grid Array, 6.85 x 6.85 mm Body, 0.8 mm Pitch; Supplier 1: Mouser; Supplier Part Number 1: N/A; Output Type: Analog; Packing: Tray; Mounting Technology: Surface Mount; ComponentLink1Description: Manufacturer URL; ComponentLink1URL: http://www.analog.com/en/index.html; ComponentLink2Description: Datasheet; ComponentLink2URL: http://www.analog.com/static/imported-files/data_sheets/ADXRS620.pdf; ComponentLink3Description: Package Specification; ComponentLink3URL: http:/www.analog.com/static/imported-files/packages/6438543BG_32_3.pdf; ComponentLink4Description: Product URL; ComponentLink4URL: http://www.analog.com/en/mems-sensors/mems-inertial-sensors/adxrs620/products/product.html
footprint ADI-BG-32-3 (BGA, 32-Balls, Body 6.85x6.85mm, Pitch 0.8mm)
part A pins: A2 RATEOUT (out) "Rate Signal Output.", A4 CP2 "Charge Pump Capacitor (22 nF).", A5 CP1 "Charge Pump Capacitor (22 nF).", A6 CP4 "Charge Pump Capacitor (22 nF).", B1 RATEOUT (out) "Rate Signal Output.", B4 CP2 "Charge Pump Capacitor (22 nF).", B5 CP1 "Charge Pump Capacitor (22 nF).", B7 CP4 "Charge Pump Capacitor (22 nF).", C1 SUMJ (in) "Output Amp Summing Junction.", C2 SUMJ (in) "Output Amp Summing Junction.", C6 CP3 "Charge Pump Capacitor (22 nF).", C7 CP3 "Charge Pump Capacitor (22 nF).", D1 NC "No Connect.", D2 NC "No Connect.", D6 CP5 (power) "HV Filter Capacitor (0.1 uF).", D7 CP5 (power) "HV Filter Capacitor (0.1 uF).", F3 TEMP (out) "Temperature Voltage Output.", F4 ST2 (in) "Self-Test for Sensor 2.", F5 ST1 (in) "Self-Test for Sensor 1.", G3 TEMP (out) "Temperature Voltage Output.", G4 ST2 (in) "Self-Test for Sensor 2.", G5 ST1 (in) "Self-Test for Sensor 1."
part B pins: A3 AVCC (power) "Positive Analog Supply.", B3 AVCC (power) "Positive Analog Supply.", E1 VRATIO (power) "Reference Supply for Ratiometric Output.", E2 VRATIO (power) "Reference Supply for Ratiometric Output.", E6 VDD (power) "Positive Charge Pump Supply.", E7 VDD (power) "Positive Charge Pump Supply.", F1 AGND (power) "Analog Supply Return.", F7 PGND (power) "Charge Pump Supply Return.", G2 AGND (power) "Analog Supply Return.", G6 PGND (power) "Charge Pump Supply Return."

## ADXRS620WBBGZA-RL
designator U?
+/-300 degrees/s Yaw Rate Gyro with Analog Output, 2.5 KHz BW, Industrial, 32-pin BGA, Reel; Manufacturer: Analog Devices; PartNumber: ADXRS620WBBGZA-RL; -3dB Bandwidth: 2.5 KHz; Nonliniarity: 0.1% of FS; Sensitivity: 6 mv/degrees/s; Supply Current: 3.5 mA; Temp Sensor: Yes; Voltage Reference: No; Voltage Supply (V): 4.75 to 5.25; DatasheetVersion: Rev. B; PackageVersion: 042307-A, 04/2007; PackageReference: BG-32-3; PackageDescription: 32-Ball Ceramic Ball Grid Array, 6.85 x 6.85 mm Body, 0.8 mm Pitch; Supplier 1: Mouser; Supplier Part Number 1: N/A; Output Type: Analog; Packing: Reel; Mounting Technology: Surface Mount; ComponentLink1Description: Manufacturer URL; ComponentLink1URL: http://www.analog.com/en/index.html; ComponentLink2Description: Datasheet; ComponentLink2URL: http://www.analog.com/static/imported-files/data_sheets/ADXRS620.pdf; ComponentLink3Description: Package Specification; ComponentLink3URL: http:/www.analog.com/static/imported-files/packages/6438543BG_32_3.pdf; ComponentLink4Description: Product URL; ComponentLink4URL: http://www.analog.com/en/mems-sensors/mems-inertial-sensors/adxrs620/products/product.html
footprint ADI-BG-32-3 (BGA, 32-Balls, Body 6.85x6.85mm, Pitch 0.8mm)
part A pins: A2 RATEOUT (out) "Rate Signal Output.", A4 CP2 "Charge Pump Capacitor (22 nF).", A5 CP1 "Charge Pump Capacitor (22 nF).", A6 CP4 "Charge Pump Capacitor (22 nF).", B1 RATEOUT (out) "Rate Signal Output.", B4 CP2 "Charge Pump Capacitor (22 nF).", B5 CP1 "Charge Pump Capacitor (22 nF).", B7 CP4 "Charge Pump Capacitor (22 nF).", C1 SUMJ (in) "Output Amp Summing Junction.", C2 SUMJ (in) "Output Amp Summing Junction.", C6 CP3 "Charge Pump Capacitor (22 nF).", C7 CP3 "Charge Pump Capacitor (22 nF).", D1 NC "No Connect.", D2 NC "No Connect.", D6 CP5 (power) "HV Filter Capacitor (0.1 uF).", D7 CP5 (power) "HV Filter Capacitor (0.1 uF).", F3 TEMP (out) "Temperature Voltage Output.", F4 ST2 (in) "Self-Test for Sensor 2.", F5 ST1 (in) "Self-Test for Sensor 1.", G3 TEMP (out) "Temperature Voltage Output.", G4 ST2 (in) "Self-Test for Sensor 2.", G5 ST1 (in) "Self-Test for Sensor 1."
part B pins: A3 AVCC (power) "Positive Analog Supply.", B3 AVCC (power) "Positive Analog Supply.", E1 VRATIO (power) "Reference Supply for Ratiometric Output.", E2 VRATIO (power) "Reference Supply for Ratiometric Output.", E6 VDD (power) "Positive Charge Pump Supply.", E7 VDD (power) "Positive Charge Pump Supply.", F1 AGND (power) "Analog Supply Return.", F7 PGND (power) "Charge Pump Supply Return.", G2 AGND (power) "Analog Supply Return.", G6 PGND (power) "Charge Pump Supply Return."

## ADXRS622BBGZ
designator U?
+/-250 degrees/s Yaw Rate Gyroscope with Analog Output, 2.5 KHz BW, Industrial, 32-pin BGA, Tray; Manufacturer: Analog Devices; PartNumber: ADXRS622BBGZ; -3dB Bandwidth: 2.5 KHz; Nonliniarity: 0.1% of FS; Sensitivity: 7 mV/degrees/s; Supply Current: 3.5 mA; Temp Sensor: Yes; Voltage Reference: No; Voltage Supply (V): 4.75 to 5.25; DatasheetVersion: Rev. C; PackageVersion: 042307-A, 04/2007; PackageReference: BG-32-3; PackageDescription: 32-Ball Ceramic Ball Grid Array, 6.85 x 6.85 mm Body, 0.8 mm Pitch; Supplier 1: Digi-Key; Supplier Part Number 1: ADXRS622BBGZ-ND; Supplier 2: Mouser; Supplier Part Number 2: 584-ADXRS622BBGZ; Output Type: Analog; Packing: Tray; Mounting Technology: Surface Mount; ComponentLink1Description: Manufacturer URL; ComponentLink1URL: http://www.analog.com/en/index.html; ComponentLink2Description: Datasheet; ComponentLink2URL: http://www.analog.com/static/imported-files/data_sheets/ADXRS622.pdf; ComponentLink3Description: Package Specification; ComponentLink3URL: http:/www.analog.com/static/imported-files/packages/6438543BG_32_3.pdf; ComponentLink4Description: Product URL; ComponentLink4URL: http://www.analog.com/en/mems-sensors/mems-inertial-sensors/adxrs622/products/product.html
footprint ADI-BG-32-3 (BGA, 32-Balls, Body 6.85x6.85mm, Pitch 0.8mm)
part A pins: A2 RATEOUT (out) "Rate Signal Output.", A4 CP2 "Charge Pump Capacitor (22 nF).", A5 CP1 "Charge Pump Capacitor (22 nF).", A6 CP4 "Charge Pump Capacitor (22 nF).", B1 RATEOUT (out) "Rate Signal Output.", B4 CP2 "Charge Pump Capacitor (22 nF).", B5 CP1 "Charge Pump Capacitor (22 nF).", B7 CP4 "Charge Pump Capacitor (22 nF).", C1 SUMJ (in) "Output Amp Summing Junction.", C2 SUMJ (in) "Output Amp Summing Junction.", C6 CP3 "Charge Pump Capacitor (22 nF).", C7 CP3 "Charge Pump Capacitor (22 nF).", D1 NC "No Connect.", D2 NC "No Connect.", D6 CP5 (power) "HV Filter Capacitor (0.1 uF).", D7 CP5 (power) "HV Filter Capacitor (0.1 uF).", F3 TEMP (out) "Temperature Voltage Output.", F4 ST2 (in) "Self-Test for Sensor 2.", F5 ST1 (in) "Self-Test for Sensor 1.", G3 TEMP (out) "Temperature Voltage Output.", G4 ST2 (in) "Self-Test for Sensor 2.", G5 ST1 (in) "Self-Test for Sensor 1."
part B pins: A3 AVCC (power) "Positive Analog Supply.", B3 AVCC (power) "Positive Analog Supply.", E1 VRATIO (power) "Reference Supply for Ratiometric Output.", E2 VRATIO (power) "Reference Supply for Ratiometric Output.", E6 VDD (power) "Positive Charge Pump Supply.", E7 VDD (power) "Positive Charge Pump Supply.", F1 AGND (power) "Analog Supply Return.", F7 PGND (power) "Charge Pump Supply Return.", G2 AGND (power) "Analog Supply Return.", G6 PGND (power) "Charge Pump Supply Return."

## ADXRS622BBGZ-RL
designator U?
+/-250 degrees/s Yaw Rate Gyroscope with Analog Output, 2.5 KHz BW, Industrial, 32-pin BGA, Reel; Manufacturer: Analog Devices; PartNumber: ADXRS622BBGZ-RL; -3dB Bandwidth: 2.5 KHz; Nonliniarity: 0.1% of FS; Sensitivity: 7 mV/degrees/s; Supply Current: 3.5 mA; Temp Sensor: Yes; Voltage Reference: No; Voltage Supply (V): 4.75 to 5.25; DatasheetVersion: Rev. C; PackageVersion: 042307-A, 04/2007; PackageReference: BG-32-3; PackageDescription: 32-Ball Ceramic Ball Grid Array, 6.85 x 6.85 mm Body, 0.8 mm Pitch; Supplier 1: Digi-Key; Supplier Part Number 1: ADXRS622BBGZ-RLTR-ND; Supplier 2: Digi-Key; Supplier Part Number 2: ADXRS622BBGZ-RLCT-ND; Supplier 3: Digi-Key; Supplier Part Number 3: ADXRS622BBGZ-RLDKR-ND; Supplier 4: Mouser; Supplier Part Number 4: 584-ADXRS622BBGZ-R; Output Type: Analog; Packing: Reel; Mounting Technology: Surface Mount; ComponentLink1Description: Manufacturer URL; ComponentLink1URL: http://www.analog.com/en/index.html; ComponentLink2Description: Datasheet; ComponentLink2URL: http://www.analog.com/static/imported-files/data_sheets/ADXRS622.pdf; ComponentLink3Description: Package Specification; ComponentLink3URL: http:/www.analog.com/static/imported-files/packages/6438543BG_32_3.pdf; ComponentLink4Description: Product URL; ComponentLink4URL: http://www.analog.com/en/mems-sensors/mems-inertial-sensors/adxrs622/products/product.html
footprint ADI-BG-32-3 (BGA, 32-Balls, Body 6.85x6.85mm, Pitch 0.8mm)
part A pins: A2 RATEOUT (out) "Rate Signal Output.", A4 CP2 "Charge Pump Capacitor (22 nF).", A5 CP1 "Charge Pump Capacitor (22 nF).", A6 CP4 "Charge Pump Capacitor (22 nF).", B1 RATEOUT (out) "Rate Signal Output.", B4 CP2 "Charge Pump Capacitor (22 nF).", B5 CP1 "Charge Pump Capacitor (22 nF).", B7 CP4 "Charge Pump Capacitor (22 nF).", C1 SUMJ (in) "Output Amp Summing Junction.", C2 SUMJ (in) "Output Amp Summing Junction.", C6 CP3 "Charge Pump Capacitor (22 nF).", C7 CP3 "Charge Pump Capacitor (22 nF).", D1 NC "No Connect.", D2 NC "No Connect.", D6 CP5 (power) "HV Filter Capacitor (0.1 uF).", D7 CP5 (power) "HV Filter Capacitor (0.1 uF).", F3 TEMP (out) "Temperature Voltage Output.", F4 ST2 (in) "Self-Test for Sensor 2.", F5 ST1 (in) "Self-Test for Sensor 1.", G3 TEMP (out) "Temperature Voltage Output.", G4 ST2 (in) "Self-Test for Sensor 2.", G5 ST1 (in) "Self-Test for Sensor 1."
part B pins: A3 AVCC (power) "Positive Analog Supply.", B3 AVCC (power) "Positive Analog Supply.", E1 VRATIO (power) "Reference Supply for Ratiometric Output.", E2 VRATIO (power) "Reference Supply for Ratiometric Output.", E6 VDD (power) "Positive Charge Pump Supply.", E7 VDD (power) "Positive Charge Pump Supply.", F1 AGND (power) "Analog Supply Return.", F7 PGND (power) "Charge Pump Supply Return.", G2 AGND (power) "Analog Supply Return.", G6 PGND (power) "Charge Pump Supply Return."

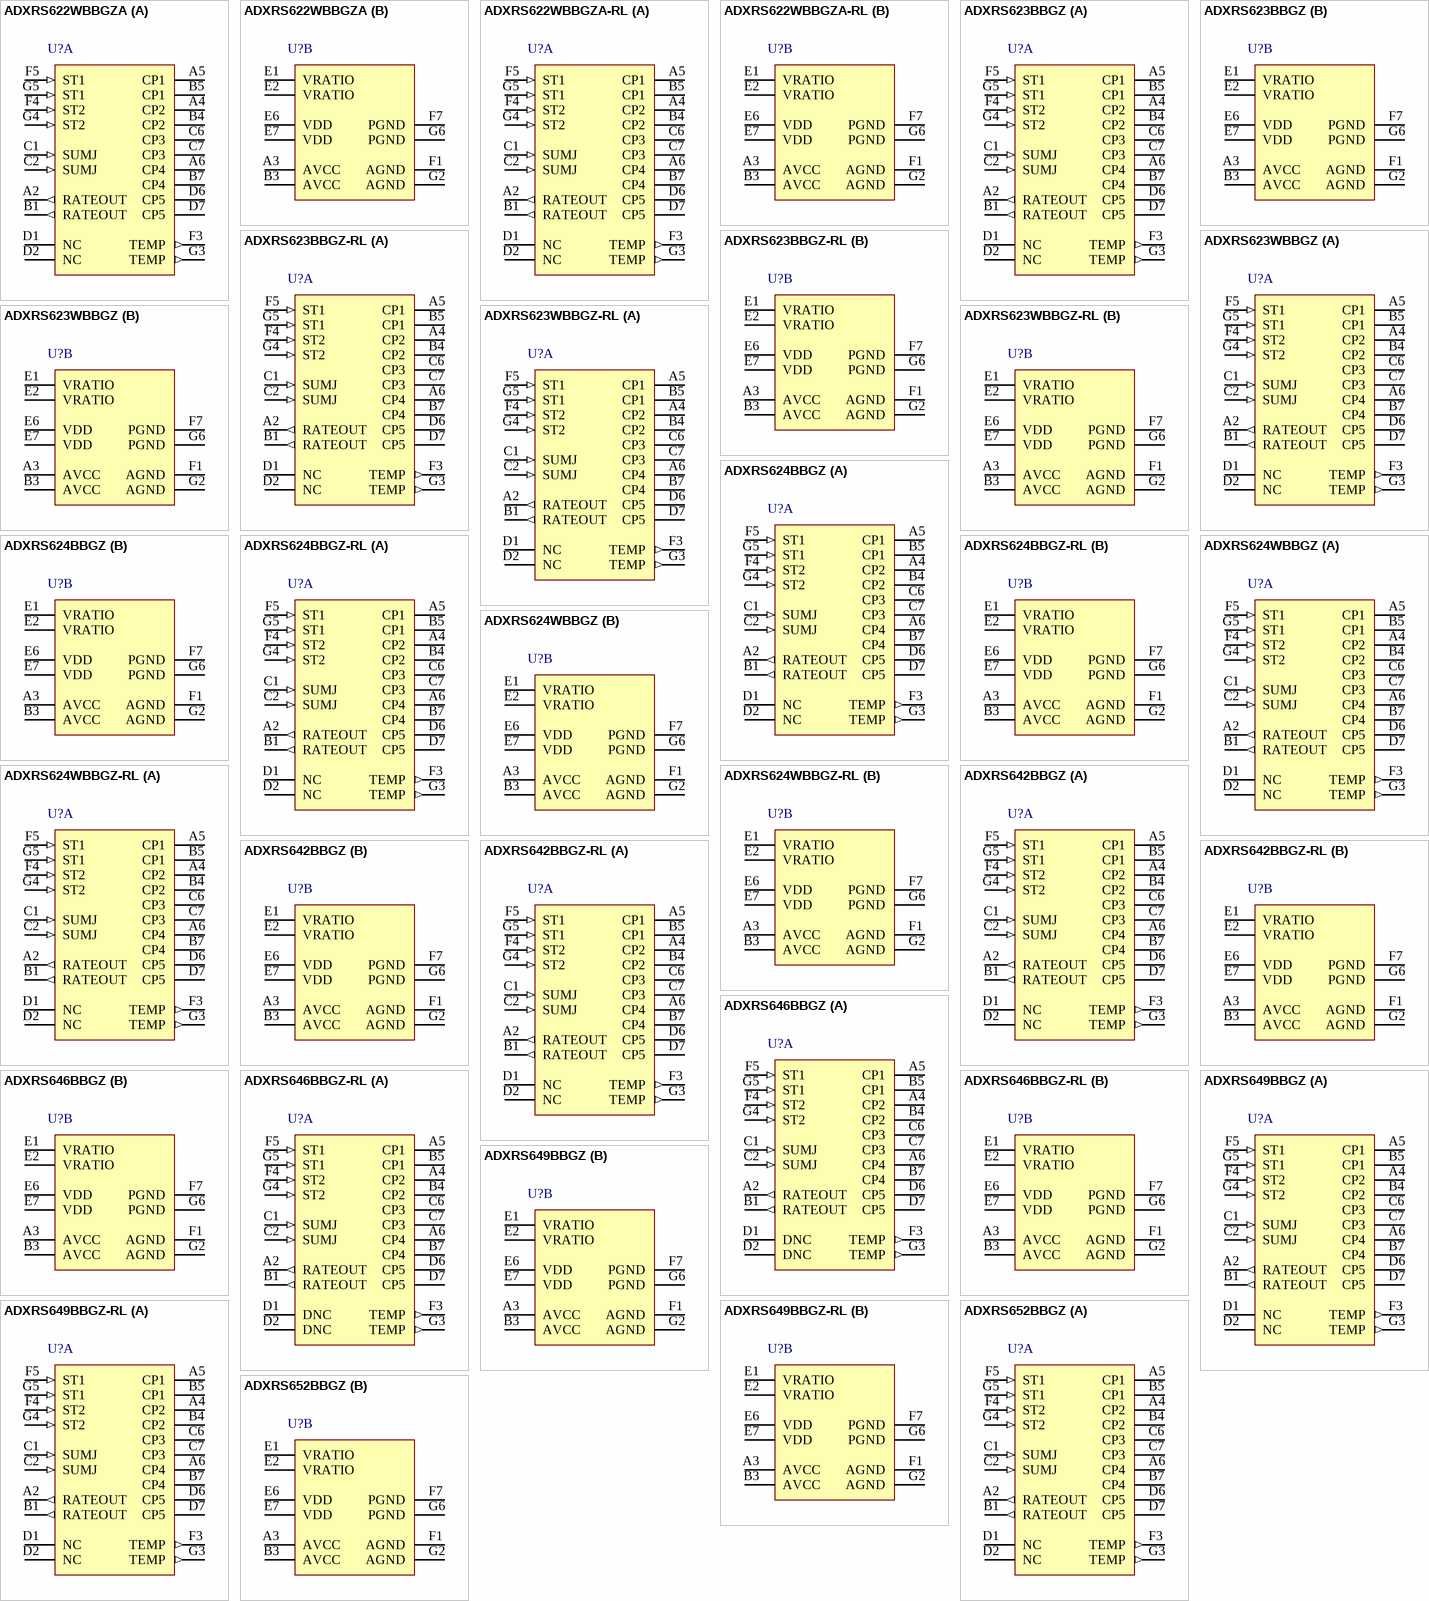
[diagram p4: symbols ADXRS622WBBGZA to ADXRS652BBGZ]